# EAGLE library part RN4871 (library Microchip RN4871)
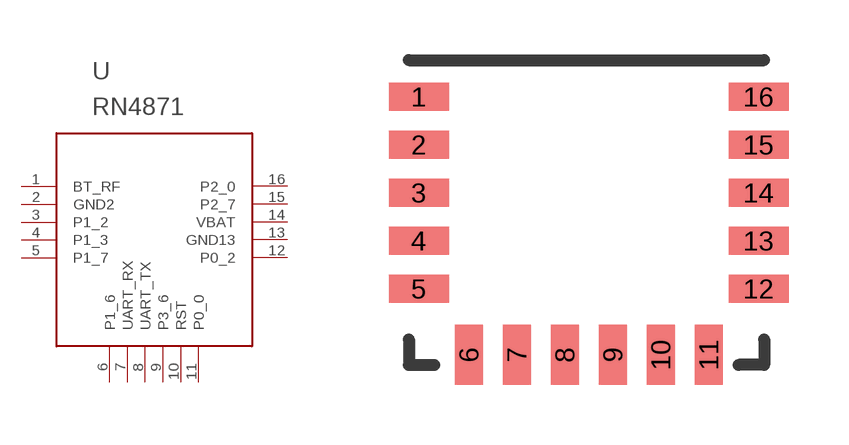
[diagram p0: symbol with the pads of RN4871; footprint RN4871]

Designator prefix -

## RN4871SMD  [RN4871]
1  BT_RF
2  GND2  pwr
3  P1_2
4  P1_3
5  P1_7
6  P1_6
7  UART_RX
8  UART_TX
9  P3_6
10  RST
11  P0_0
12  P0_2
13  GND13  pwr
14  VBAT  pwr
15  P2_7
16  P2_0

## Footprint RN4871 (pad centres in mm)
smd 1.5 x 0.7: 1 -3.56,2.89; 2 -3.56,1.69; 3 -3.56,0.49; 4 -3.56,-0.71; 5 -3.56,-1.91; 12 4.94,-1.91; 13 4.94,-0.71; 14 4.94,0.49; 15 4.94,1.69; 16 4.94,2.89
smd 0.7 x 1.5: 6 -2.31,-3.56; 7 -1.11,-3.56; 8 0.09,-3.56; 9 1.29,-3.56; 10 2.49,-3.56; 11 3.69,-3.56